# EAGLE library part 1-170595-1 (library 000001)
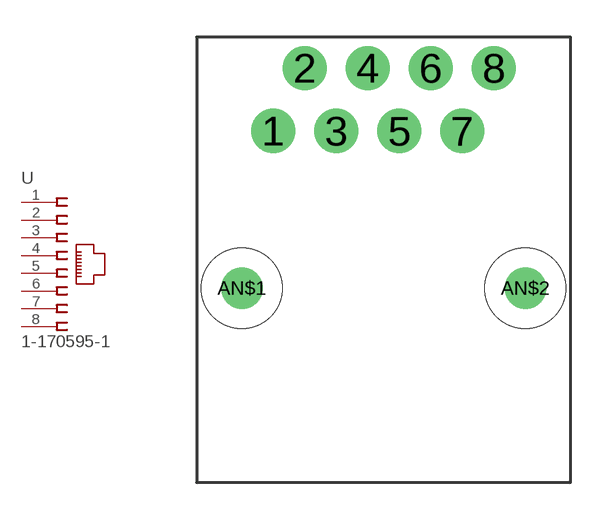
[diagram p125: symbol with the pads of 1-1705961-1; footprint 1-1705961-1]

Designator prefix -

## 1-170595-1  [1-1705961-1]
1  1  pas
2  2  pas
3  3  pas
4  4  pas
5  5  pas
6  6  pas
7  7  pas
8  8  pas

## Footprint 1-1705961-1 (pad centres in mm)
drill 0.5 pad 1.778 round: 1 -4.445,6.35; 2 -3.175,8.89; 3 -1.905,6.35; 4 -0.635,8.89; 5 0.635,6.35; 6 1.905,8.89; 7 3.175,6.35; 8 4.445,8.89
drill 0.8 pad 1.676 round: AN$1 -5.715,0; AN$2 5.715,0
hole 3.251 at -5.715,0
hole 3.251 at 5.715,0